# Altium integrated library ON Semi Signal Management CMOS Image Sensors.IntLib: 21 symbols (part 2 of 3)
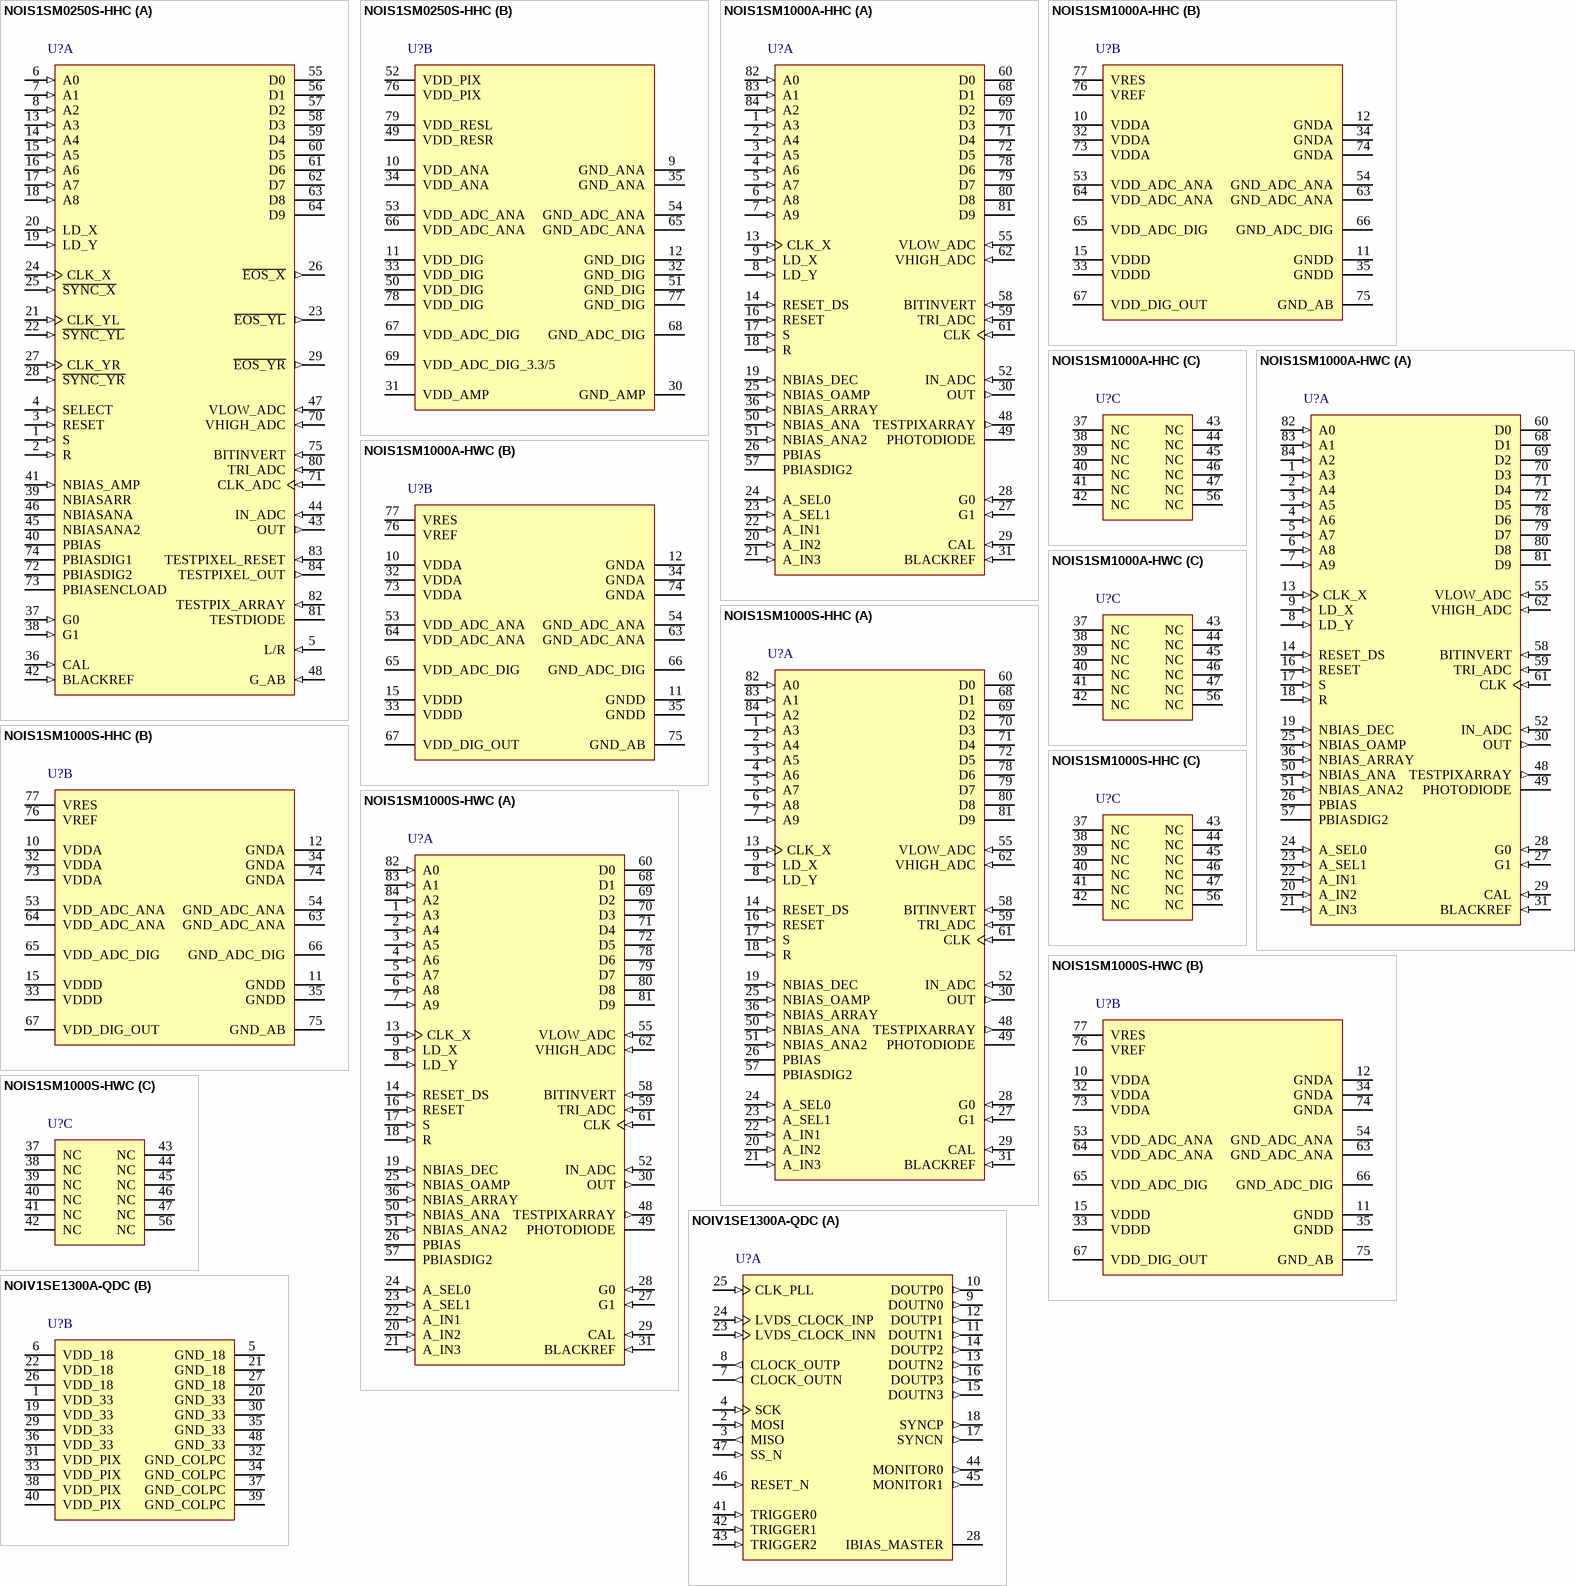
[diagram p4: symbols NOIS1SM0250S-HHC to NOIV1SE1300A-QDC]

## NOIS1SM1000A-HHC
designator U?
1 Megapixel Radiation Hard CMOS Image Sensor, -40 to 85 degC, 84-Pin JLDCC, Pb-Free, Tray; Manufacturer: On Semiconductor; PartNumber: NOIS1SM1000A-HHC; Frame Rate (fps): 11; Megapixels: 1; Optical Format: 1 inch; Shutter Type: Rolling; DatasheetVersion: Rev. 13; PackageVersion: Rev. O, 07/2011; PackageReference: JLDCC-84-114AK-01; PackageDescription: 84-Pin J-Leaded Chip Carrier, Body 29.21 x 29.21 mm, Pitch 1.27 mm; Supplier 1: Digi-Key; Supplier Part Number 1: NOIS1SM1000A-HHC-ND; Supplier 2: Newark; Supplier Part Number 2: 53X4362; Supplier 3: Mouser; Supplier Part Number 3: N/A; Packing: Tray; RoHS: TRUE; Mounting Technology: Surface Mount; ComponentLink1Description: Manufacturer URL; ComponentLink1URL: http://www.onsemi.com/; ComponentLink2Description: Datasheet; ComponentLink2URL: http://www.onsemi.com/pub_link/Collateral/NOIS1SM1000A-D.PDF; ComponentLink3Description: Package Specification; ComponentLink3URL: http://www.onsemi.com/pub_link/Collateral/114AK.PDF
footprint ONSC-JLDCC-84-114AK-01_V (PLCC, 84-Leads, Body 29.21x29.21mm, Pitch 1.27mm)
part A pins: 1 A3 (in), 2 A4 (in), 3 A5 (in), 4 A6 (in), 5 A7 (in), 6 A8 (in), 7 A9 (in), 8 LD_Y (in) "Digital Input. Latch address (A0…A9) to Y-register (0 = track, 1 = hold).", 9 LD_X (in) "Digital input. Latch address (A0…A9) to X-register (0 = track, 1 = hold).", 13 CLK_X (in) "Digital input. Clock X-register (output valid & stable when CLK_X is high).", 14 RESET_DS (in) "Digital input (active high). Resets row indicated by Y-address (see sensor timing diagram). RESET_DS is used for dual-slope integration (see FAQ). GND is used for normal operation.", 16 RESET (in) "Digital input (active high). Resets row indicated by Y-address (see sensor timing diagram).", 17 S (in) "Digital input (active high). Control signal for column amplifier (see sensor timing diagram).", 18 R (in) "Digital input (active high). Control signal for column amplifier (see sensor timing diagram).", 19 NBIAS_DEC (in) "Analog input. Biasing of address decoder. Connect with 100 kohm to VDDA and decouple with 100 nF to GND.", 20 A_IN2 (in) "Additional analog inputs. For proper conversion with on-chip ADC, the input signal must lie within the output signal range of the image sensor (approxim-ately +2 V to +4 V).", 21 A_IN3 (in) "Additional analog inputs. For proper conversion with on-chip ADC, the input signal must lie within the output signal range of the image sensor (approxim-ately +2 V to +4 V).", 22 A_IN1 (in) "Additional analog inputs. For proper conversion with on-chip ADC, the input signal must lie within the output signal range of the image sensor (approxim-ately +2 V to +4 V).", 23 A_SEL1 (in) "Selection of analog channel: ?0?selects image sensor (?1?selects A_IN1, ?0?A_IN2, and ?1?A_IN3).", 24 A_SEL0 (in) "Selection of analog channel: ?0?selects image sensor (?1?selects A_IN1, ?0?A_IN2, and ?1?A_IN3).", 25 NBIAS_OAMP (in) "Analog input. Bias of output amplifier (speed/power control). Connect with 100 kohm to VDDA and decouple with 100 nF to GND for 12.5 MHz output rate (lower resistor values yield higher maximal pixel rates at the cost of (See Datasheet)", 26 PBIAS "Analog input. Biasing of the multiplexer circuitry. Connect with 20 kohm to GND and decouple with 100 nF to VDD.", 27 G1 (in) "Digital input. Select output amplifier gain value: G0 = LSB, G1 = MSB (?0?= unity gain, ?1?= x2, ?0?= x4, ?1?= x8).", 28 G0 (in) "Digital input. Select output amplifier gain value: G0 = LSB, G1 = MSB (?0?= unity gain, ?1?= x2, ?0?= x4, ?1?= x8).", 29 CAL (in) "Digital input (active high). Initialization of output amplifier. Output amplifier outputs BLACKREF in unity gain mode when CAL is high (1). Apply pulse pattern (see sensor timing diagram).", 30 OUT (out) "Analog Output Video Signal. Connected to the analog input of the internal (pin 52) 10-bit ADC or an external ADC.", 31 BLACKREF (in) "Analog input. Control voltage for output signal offset level. Buffered on-chip, the reference level can be generated by a 100 kohm resistive divider. Connect to 2 V DC for use with on-chip ADC.", 36 NBIAS_ARRAY (in) "Analog input. Biasing of the pixel array. Connect with 1Mohm to VDDA and decouple with 100 nF capacitor to GND.", 48 TESTPIXARRAY (out) "Analog output of an array of 20 x 35 test pixels where all photodiodes are connected in parallel. Is used for electro-optical evaluation.", 49 PHOTODIODE "Plain Photo Diode (without circuitry). Area of the photodiode = 20 x 35 pixels. Is used for electro-optical evaluation.", 50 NBIAS_ANA (in) "Analog input. Analog biasing of the ADC circuitry. Connect with 100 kohm to VDDA and decouple with 100 nF to GND.", 51 NBIAS_ANA2 (in) "Analog input. Analog biasing of the ADC circuitry. Connect with 100 kohm to VDDA and decouple with 100 nF to GND.", 52 IN_ADC (in) "Analog input of the internal ADC. Connect to analog output of image sensor (pin 30). Input range (typically 2 V and 4 V) of the internal ADC is set between by VLOW_ADC (pin 55) and VHIGH_ADC (pin 62).", 55 VLOW_ADC (in) "Low reference voltage of internal ADC. Nominal input range of the ADC is between 2 V and 4 V. The resistance between VLOW_ADC and VHIGH_ADC is approximately 1.5 kohm. Connect with 1.5 kohm to GND and decouple with 100 nF to (See Datasheet)", 57 PBIASDIG2 "Connect with 20 kohm to GND and decouple with 100 nF to VDDA.", 58 BITINVERT (in) "Digital input. Inversion of the ADC output bits. 0 = invert output bits (0 => black, 1023; white, 0), 1 = no inversion of output bits (black, 0; white, 1023).", 59 TRI_ADC (in) "Digital input. Tri-state control of digital ADC outputs (1 = tri-state, 0 = normal mode).", 60 D0 (hiz) "ADC output bits.#D0 = LSB, D9=MSB.", 61 CLK (in) "Digital input. ADC clock. ADC converts on falling edge.", 62 VHIGH_ADC (in) "High reference voltage of internal ADC. Nominal input range of the ADC is between 2 V and 4 V. The resistance between VLOW_ADC and VHIGH_ADC is about 1.5 kohm. Connect with 1.1 kohm to VDDA and decouple with 100 nF to GND.", 68 D1 (hiz) "ADC output bits. #D0 = LSB, D9 = MSB.", 69 D2 (hiz) "ADC output bits. #D0 = LSB, D9 = MSB.", 70 D3 (hiz) "ADC output bits. #D0 = LSB, D9 = MSB.", 71 D4 (hiz) "ADC output bits. #D0 = LSB, D9 = MSB.", 72 D5 (hiz) "ADC output bits. #D0 = LSB, D9 = MSB.", 78 D6 (hiz) "ADC output bits. #D0 = LSB, D9 = MSB.", 79 D7 (hiz) "ADC output bits. #D0 = LSB, D9 = MSB.", 80 D8 (hiz) "ADC output bits. #D0 = LSB, D9 = MSB.", 81 D9 (hiz) "ADC output bits. #D0 = LSB, D9 = MSB.", 82 A0 (in) "Digital input. Address inputs for row and column addressing. A9 = LSB, A0 = MSB.", 83 A1 (in) "Digital input. Address inputs for row and column addressing. A9 = LSB, A0 = MSB.", 84 A2 (in) "Digital input. Address inputs for row and column addressing. A9 = LSB, A0 = MSB."
part B pins: 10 VDDA (power) "Analog power supply of the imager (typical 5 V).", 11 GNDD (power) "Digital ground of the imager.", 12 GNDA (power) "Analog ground of the imager.", 15 VDDD (power) "Digital supply of the image sensor.", 32 VDDA (power) "Analog power supply of image core (typical 5 V).", 33 VDDD (power) "Digital power supply of image core (typical 5 V).", 34 GNDA (power) "Analog ground of image core.", 35 GNDD (power) "Digital ground of image core.", 53 VDD_ADC_ANA (power) "Analog power supply of the ADC (typical 5 V).", 54 GND_ADC_ANA (power) "Analog ground of the ADC.", 63 GND_ADC_ANA (power) "Analog ground of the ADC circuitry.", 64 VDD_ADC_ANA (power) "Analog supply of the ADC circuitry (typical 5 V).", 65 VDD_ADC_DIG (power) "Digital supply of the ADC circuitry (typical 5 V).", 66 GND_ADC_DIG (power) "Digital ground of the ADC circuitry.", 67 VDD_DIG_OUT (power) "Power supply of ADC digital output. Connect to 5 V for normal operation. Can be brought to lower voltage when image sensor must be interfaced to low voltage periphery.", 73 VDDA (power) "Analog supply of the image core (typical 5 V).", 74 GNDA (power) "Analog ground of the image core (typical 5 V).", 75 GND_AB (power) "Anti-blooming drain control voltage. Default: connect to ground where the anti-blooming is operational but not maximal. Apply 1 V DC for improved anti-blooming.", 76 VREF (power) "Analog supply. Reset level for RESET_DS. Is used for extended optical dynamic range. See FAQ for more details.", 77 VRES (power) "Analog supply. Reset level for RESET (typical 5 V)."
part C pins: 37 NC, 38 NC, 39 NC, 40 NC, 41 NC, 42 NC, 43 NC, 44 NC, 45 NC, 46 NC, 47 NC, 56 NC

## NOIS1SM1000A-HWC
designator U?
1 Megapixel Radiation Hard CMOS Image Sensor, -40 to 85 degC, 84-Pin JLDCC, Pb-Free; Manufacturer: On Semiconductor; PartNumber: NOIS1SM1000A-HWC; Frame Rate (fps): 11; Megapixels: 1; Optical Format: 1 inch; Shutter Type: Rolling; DatasheetVersion: Rev. 13; PackageVersion: Rev. O, 07/2011; PackageReference: JLDCC-84-114AK-01; PackageDescription: 84-Pin J-Leaded Chip Carrier, Body 29.21 x 29.21 mm, Pitch 1.27 mm; RoHS: TRUE; Mounting Technology: Surface Mount; ComponentLink1Description: Manufacturer URL; ComponentLink1URL: http://www.onsemi.com/; ComponentLink2Description: Datasheet; ComponentLink2URL: http://www.onsemi.com/pub_link/Collateral/NOIS1SM1000A-D.PDF; ComponentLink3Description: Package Specification; ComponentLink3URL: http://www.onsemi.com/pub_link/Collateral/114AK.PDF
footprint ONSC-JLDCC-84-114AK-01_V (PLCC, 84-Leads, Body 29.21x29.21mm, Pitch 1.27mm)
part A pins: 1 A3 (in), 2 A4 (in), 3 A5 (in), 4 A6 (in), 5 A7 (in), 6 A8 (in), 7 A9 (in), 8 LD_Y (in) "Digital Input. Latch address (A0…A9) to Y-register (0 = track, 1 = hold).", 9 LD_X (in) "Digital input. Latch address (A0…A9) to X-register (0 = track, 1 = hold).", 13 CLK_X (in) "Digital input. Clock X-register (output valid & stable when CLK_X is high).", 14 RESET_DS (in) "Digital input (active high). Resets row indicated by Y-address (see sensor timing diagram). RESET_DS is used for dual-slope integration (see FAQ). GND is used for normal operation.", 16 RESET (in) "Digital input (active high). Resets row indicated by Y-address (see sensor timing diagram).", 17 S (in) "Digital input (active high). Control signal for column amplifier (see sensor timing diagram).", 18 R (in) "Digital input (active high). Control signal for column amplifier (see sensor timing diagram).", 19 NBIAS_DEC (in) "Analog input. Biasing of address decoder. Connect with 100 kohm to VDDA and decouple with 100 nF to GND.", 20 A_IN2 (in) "Additional analog inputs. For proper conversion with on-chip ADC, the input signal must lie within the output signal range of the image sensor (approxim-ately +2 V to +4 V).", 21 A_IN3 (in) "Additional analog inputs. For proper conversion with on-chip ADC, the input signal must lie within the output signal range of the image sensor (approxim-ately +2 V to +4 V).", 22 A_IN1 (in) "Additional analog inputs. For proper conversion with on-chip ADC, the input signal must lie within the output signal range of the image sensor (approxim-ately +2 V to +4 V).", 23 A_SEL1 (in) "Selection of analog channel: ?0?selects image sensor (?1?selects A_IN1, ?0?A_IN2, and ?1?A_IN3).", 24 A_SEL0 (in) "Selection of analog channel: ?0?selects image sensor (?1?selects A_IN1, ?0?A_IN2, and ?1?A_IN3).", 25 NBIAS_OAMP (in) "Analog input. Bias of output amplifier (speed/power control). Connect with 100 kohm to VDDA and decouple with 100 nF to GND for 12.5 MHz output rate (lower resistor values yield higher maximal pixel rates at the cost of (See Datasheet)", 26 PBIAS "Analog input. Biasing of the multiplexer circuitry. Connect with 20 kohm to GND and decouple with 100 nF to VDD.", 27 G1 (in) "Digital input. Select output amplifier gain value: G0 = LSB, G1 = MSB (?0?= unity gain, ?1?= x2, ?0?= x4, ?1?= x8).", 28 G0 (in) "Digital input. Select output amplifier gain value: G0 = LSB, G1 = MSB (?0?= unity gain, ?1?= x2, ?0?= x4, ?1?= x8).", 29 CAL (in) "Digital input (active high). Initialization of output amplifier. Output amplifier outputs BLACKREF in unity gain mode when CAL is high (1). Apply pulse pattern (see sensor timing diagram).", 30 OUT (out) "Analog Output Video Signal. Connected to the analog input of the internal (pin 52) 10-bit ADC or an external ADC.", 31 BLACKREF (in) "Analog input. Control voltage for output signal offset level. Buffered on-chip, the reference level can be generated by a 100 kohm resistive divider. Connect to 2 V DC for use with on-chip ADC.", 36 NBIAS_ARRAY (in) "Analog input. Biasing of the pixel array. Connect with 1Mohm to VDDA and decouple with 100 nF capacitor to GND.", 48 TESTPIXARRAY (out) "Analog output of an array of 20 x 35 test pixels where all photodiodes are connected in parallel. Is used for electro-optical evaluation.", 49 PHOTODIODE "Plain Photo Diode (without circuitry). Area of the photodiode = 20 x 35 pixels. Is used for electro-optical evaluation.", 50 NBIAS_ANA (in) "Analog input. Analog biasing of the ADC circuitry. Connect with 100 kohm to VDDA and decouple with 100 nF to GND.", 51 NBIAS_ANA2 (in) "Analog input. Analog biasing of the ADC circuitry. Connect with 100 kohm to VDDA and decouple with 100 nF to GND.", 52 IN_ADC (in) "Analog input of the internal ADC. Connect to analog output of image sensor (pin 30). Input range (typically 2 V and 4 V) of the internal ADC is set between by VLOW_ADC (pin 55) and VHIGH_ADC (pin 62).", 55 VLOW_ADC (in) "Low reference voltage of internal ADC. Nominal input range of the ADC is between 2 V and 4 V. The resistance between VLOW_ADC and VHIGH_ADC is approximately 1.5 kohm. Connect with 1.5 kohm to GND and decouple with 100 nF to (See Datasheet)", 57 PBIASDIG2 "Connect with 20 kohm to GND and decouple with 100 nF to VDDA.", 58 BITINVERT (in) "Digital input. Inversion of the ADC output bits. 0 = invert output bits (0 => black, 1023; white, 0), 1 = no inversion of output bits (black, 0; white, 1023).", 59 TRI_ADC (in) "Digital input. Tri-state control of digital ADC outputs (1 = tri-state, 0 = normal mode).", 60 D0 (hiz) "ADC output bits.#D0 = LSB, D9=MSB.", 61 CLK (in) "Digital input. ADC clock. ADC converts on falling edge.", 62 VHIGH_ADC (in) "High reference voltage of internal ADC. Nominal input range of the ADC is between 2 V and 4 V. The resistance between VLOW_ADC and VHIGH_ADC is about 1.5 kohm. Connect with 1.1 kohm to VDDA and decouple with 100 nF to GND.", 68 D1 (hiz) "ADC output bits. #D0 = LSB, D9 = MSB.", 69 D2 (hiz) "ADC output bits. #D0 = LSB, D9 = MSB.", 70 D3 (hiz) "ADC output bits. #D0 = LSB, D9 = MSB.", 71 D4 (hiz) "ADC output bits. #D0 = LSB, D9 = MSB.", 72 D5 (hiz) "ADC output bits. #D0 = LSB, D9 = MSB.", 78 D6 (hiz) "ADC output bits. #D0 = LSB, D9 = MSB.", 79 D7 (hiz) "ADC output bits. #D0 = LSB, D9 = MSB.", 80 D8 (hiz) "ADC output bits. #D0 = LSB, D9 = MSB.", 81 D9 (hiz) "ADC output bits. #D0 = LSB, D9 = MSB.", 82 A0 (in) "Digital input. Address inputs for row and column addressing. A9 = LSB, A0 = MSB.", 83 A1 (in) "Digital input. Address inputs for row and column addressing. A9 = LSB, A0 = MSB.", 84 A2 (in) "Digital input. Address inputs for row and column addressing. A9 = LSB, A0 = MSB."
part B pins: 10 VDDA (power) "Analog power supply of the imager (typical 5 V).", 11 GNDD (power) "Digital ground of the imager.", 12 GNDA (power) "Analog ground of the imager.", 15 VDDD (power) "Digital supply of the image sensor.", 32 VDDA (power) "Analog power supply of image core (typical 5 V).", 33 VDDD (power) "Digital power supply of image core (typical 5 V).", 34 GNDA (power) "Analog ground of image core.", 35 GNDD (power) "Digital ground of image core.", 53 VDD_ADC_ANA (power) "Analog power supply of the ADC (typical 5 V).", 54 GND_ADC_ANA (power) "Analog ground of the ADC.", 63 GND_ADC_ANA (power) "Analog ground of the ADC circuitry.", 64 VDD_ADC_ANA (power) "Analog supply of the ADC circuitry (typical 5 V).", 65 VDD_ADC_DIG (power) "Digital supply of the ADC circuitry (typical 5 V).", 66 GND_ADC_DIG (power) "Digital ground of the ADC circuitry.", 67 VDD_DIG_OUT (power) "Power supply of ADC digital output. Connect to 5 V for normal operation. Can be brought to lower voltage when image sensor must be interfaced to low voltage periphery.", 73 VDDA (power) "Analog supply of the image core (typical 5 V).", 74 GNDA (power) "Analog ground of the image core (typical 5 V).", 75 GND_AB (power) "Anti-blooming drain control voltage. Default: connect to ground where the anti-blooming is operational but not maximal. Apply 1 V DC for improved anti-blooming.", 76 VREF (power) "Analog supply. Reset level for RESET_DS. Is used for extended optical dynamic range. See FAQ for more details.", 77 VRES (power) "Analog supply. Reset level for RESET (typical 5 V)."
part C pins: 37 NC, 38 NC, 39 NC, 40 NC, 41 NC, 42 NC, 43 NC, 44 NC, 45 NC, 46 NC, 47 NC, 56 NC

## NOIS1SM1000S-HHC
designator U?
1 Megapixel Radiation Hard CMOS Image Sensor, -40 to 85 degC, 84-Pin JLDCC, Pb-Free, Tray; Manufacturer: On Semiconductor; PartNumber: NOIS1SM1000S-HHC; Frame Rate (fps): 11; Megapixels: 1; Optical Format: 1 inch; Shutter Type: Rolling; DatasheetVersion: Rev. 13; PackageVersion: Rev. O, 07/2011; PackageReference: JLDCC-84-114AK-01; PackageDescription: 84-Pin J-Leaded Chip Carrier, Body 29.21 x 29.21 mm, Pitch 1.27 mm; Supplier 1: Newark; Supplier Part Number 1: 53X4361; Supplier 2: Mouser; Supplier Part Number 2: N/A; Packing: Tray; RoHS: TRUE; Mounting Technology: Surface Mount; ComponentLink1Description: Manufacturer URL; ComponentLink1URL: http://www.onsemi.com/; ComponentLink2Description: Datasheet; ComponentLink2URL: http://www.onsemi.com/pub_link/Collateral/NOIS1SM1000A-D.PDF; ComponentLink3Description: Package Specification; ComponentLink3URL: http://www.onsemi.com/pub_link/Collateral/114AK.PDF
footprint ONSC-JLDCC-84-114AK-01_V (PLCC, 84-Leads, Body 29.21x29.21mm, Pitch 1.27mm)
part A pins: 1 A3 (in), 2 A4 (in), 3 A5 (in), 4 A6 (in), 5 A7 (in), 6 A8 (in), 7 A9 (in), 8 LD_Y (in) "Digital Input. Latch address (A0…A9) to Y-register (0 = track, 1 = hold).", 9 LD_X (in) "Digital input. Latch address (A0…A9) to X-register (0 = track, 1 = hold).", 13 CLK_X (in) "Digital input. Clock X-register (output valid & stable when CLK_X is high).", 14 RESET_DS (in) "Digital input (active high). Resets row indicated by Y-address (see sensor timing diagram). RESET_DS is used for dual-slope integration (see FAQ). GND is used for normal operation.", 16 RESET (in) "Digital input (active high). Resets row indicated by Y-address (see sensor timing diagram).", 17 S (in) "Digital input (active high). Control signal for column amplifier (see sensor timing diagram).", 18 R (in) "Digital input (active high). Control signal for column amplifier (see sensor timing diagram).", 19 NBIAS_DEC (in) "Analog input. Biasing of address decoder. Connect with 100 kohm to VDDA and decouple with 100 nF to GND.", 20 A_IN2 (in) "Additional analog inputs. For proper conversion with on-chip ADC, the input signal must lie within the output signal range of the image sensor (approxim-ately +2 V to +4 V).", 21 A_IN3 (in) "Additional analog inputs. For proper conversion with on-chip ADC, the input signal must lie within the output signal range of the image sensor (approxim-ately +2 V to +4 V).", 22 A_IN1 (in) "Additional analog inputs. For proper conversion with on-chip ADC, the input signal must lie within the output signal range of the image sensor (approxim-ately +2 V to +4 V).", 23 A_SEL1 (in) "Selection of analog channel: ?0?selects image sensor (?1?selects A_IN1, ?0?A_IN2, and ?1?A_IN3).", 24 A_SEL0 (in) "Selection of analog channel: ?0?selects image sensor (?1?selects A_IN1, ?0?A_IN2, and ?1?A_IN3).", 25 NBIAS_OAMP (in) "Analog input. Bias of output amplifier (speed/power control). Connect with 100 kohm to VDDA and decouple with 100 nF to GND for 12.5 MHz output rate (lower resistor values yield higher maximal pixel rates at the cost of (See Datasheet)", 26 PBIAS "Analog input. Biasing of the multiplexer circuitry. Connect with 20 kohm to GND and decouple with 100 nF to VDD.", 27 G1 (in) "Digital input. Select output amplifier gain value: G0 = LSB, G1 = MSB (?0?= unity gain, ?1?= x2, ?0?= x4, ?1?= x8).", 28 G0 (in) "Digital input. Select output amplifier gain value: G0 = LSB, G1 = MSB (?0?= unity gain, ?1?= x2, ?0?= x4, ?1?= x8).", 29 CAL (in) "Digital input (active high). Initialization of output amplifier. Output amplifier outputs BLACKREF in unity gain mode when CAL is high (1). Apply pulse pattern (see sensor timing diagram).", 30 OUT (out) "Analog Output Video Signal. Connected to the analog input of the internal (pin 52) 10-bit ADC or an external ADC.", 31 BLACKREF (in) "Analog input. Control voltage for output signal offset level. Buffered on-chip, the reference level can be generated by a 100 kohm resistive divider. Connect to 2 V DC for use with on-chip ADC.", 36 NBIAS_ARRAY (in) "Analog input. Biasing of the pixel array. Connect with 1Mohm to VDDA and decouple with 100 nF capacitor to GND.", 48 TESTPIXARRAY (out) "Analog output of an array of 20 x 35 test pixels where all photodiodes are connected in parallel. Is used for electro-optical evaluation.", 49 PHOTODIODE "Plain Photo Diode (without circuitry). Area of the photodiode = 20 x 35 pixels. Is used for electro-optical evaluation.", 50 NBIAS_ANA (in) "Analog input. Analog biasing of the ADC circuitry. Connect with 100 kohm to VDDA and decouple with 100 nF to GND.", 51 NBIAS_ANA2 (in) "Analog input. Analog biasing of the ADC circuitry. Connect with 100 kohm to VDDA and decouple with 100 nF to GND.", 52 IN_ADC (in) "Analog input of the internal ADC. Connect to analog output of image sensor (pin 30). Input range (typically 2 V and 4 V) of the internal ADC is set between by VLOW_ADC (pin 55) and VHIGH_ADC (pin 62).", 55 VLOW_ADC (in) "Low reference voltage of internal ADC. Nominal input range of the ADC is between 2 V and 4 V. The resistance between VLOW_ADC and VHIGH_ADC is approximately 1.5 kohm. Connect with 1.5 kohm to GND and decouple with 100 nF to (See Datasheet)", 57 PBIASDIG2 "Connect with 20 kohm to GND and decouple with 100 nF to VDDA.", 58 BITINVERT (in) "Digital input. Inversion of the ADC output bits. 0 = invert output bits (0 => black, 1023; white, 0), 1 = no inversion of output bits (black, 0; white, 1023).", 59 TRI_ADC (in) "Digital input. Tri-state control of digital ADC outputs (1 = tri-state, 0 = normal mode).", 60 D0 (hiz) "ADC output bits.#D0 = LSB, D9=MSB.", 61 CLK (in) "Digital input. ADC clock. ADC converts on falling edge.", 62 VHIGH_ADC (in) "High reference voltage of internal ADC. Nominal input range of the ADC is between 2 V and 4 V. The resistance between VLOW_ADC and VHIGH_ADC is about 1.5 kohm. Connect with 1.1 kohm to VDDA and decouple with 100 nF to GND.", 68 D1 (hiz) "ADC output bits. #D0 = LSB, D9 = MSB.", 69 D2 (hiz) "ADC output bits. #D0 = LSB, D9 = MSB.", 70 D3 (hiz) "ADC output bits. #D0 = LSB, D9 = MSB.", 71 D4 (hiz) "ADC output bits. #D0 = LSB, D9 = MSB.", 72 D5 (hiz) "ADC output bits. #D0 = LSB, D9 = MSB.", 78 D6 (hiz) "ADC output bits. #D0 = LSB, D9 = MSB.", 79 D7 (hiz) "ADC output bits. #D0 = LSB, D9 = MSB.", 80 D8 (hiz) "ADC output bits. #D0 = LSB, D9 = MSB.", 81 D9 (hiz) "ADC output bits. #D0 = LSB, D9 = MSB.", 82 A0 (in) "Digital input. Address inputs for row and column addressing. A9 = LSB, A0 = MSB.", 83 A1 (in) "Digital input. Address inputs for row and column addressing. A9 = LSB, A0 = MSB.", 84 A2 (in) "Digital input. Address inputs for row and column addressing. A9 = LSB, A0 = MSB."
part B pins: 10 VDDA (power) "Analog power supply of the imager (typical 5 V).", 11 GNDD (power) "Digital ground of the imager.", 12 GNDA (power) "Analog ground of the imager.", 15 VDDD (power) "Digital supply of the image sensor.", 32 VDDA (power) "Analog power supply of image core (typical 5 V).", 33 VDDD (power) "Digital power supply of image core (typical 5 V).", 34 GNDA (power) "Analog ground of image core.", 35 GNDD (power) "Digital ground of image core.", 53 VDD_ADC_ANA (power) "Analog power supply of the ADC (typical 5 V).", 54 GND_ADC_ANA (power) "Analog ground of the ADC.", 63 GND_ADC_ANA (power) "Analog ground of the ADC circuitry.", 64 VDD_ADC_ANA (power) "Analog supply of the ADC circuitry (typical 5 V).", 65 VDD_ADC_DIG (power) "Digital supply of the ADC circuitry (typical 5 V).", 66 GND_ADC_DIG (power) "Digital ground of the ADC circuitry.", 67 VDD_DIG_OUT (power) "Power supply of ADC digital output. Connect to 5 V for normal operation. Can be brought to lower voltage when image sensor must be interfaced to low voltage periphery.", 73 VDDA (power) "Analog supply of the image core (typical 5 V).", 74 GNDA (power) "Analog ground of the image core (typical 5 V).", 75 GND_AB (power) "Anti-blooming drain control voltage. Default: connect to ground where the anti-blooming is operational but not maximal. Apply 1 V DC for improved anti-blooming.", 76 VREF (power) "Analog supply. Reset level for RESET_DS. Is used for extended optical dynamic range. See FAQ for more details.", 77 VRES (power) "Analog supply. Reset level for RESET (typical 5 V)."
part C pins: 37 NC, 38 NC, 39 NC, 40 NC, 41 NC, 42 NC, 43 NC, 44 NC, 45 NC, 46 NC, 47 NC, 56 NC

## NOIS1SM1000S-HWC
designator U?
1 Megapixel Radiation Hard CMOS Image Sensor, -40 to 85 degC, 84-Pin JLDCC, Pb-Free; Manufacturer: On Semiconductor; PartNumber: NOIS1SM1000S-HWC; Frame Rate (fps): 11; Megapixels: 1; Optical Format: 1 inch; Shutter Type: Rolling; DatasheetVersion: Rev. 13; PackageVersion: Rev. O, 07/2011; PackageReference: JLDCC-84-114AK-01; PackageDescription: 84-Pin J-Leaded Chip Carrier, Body 29.21 x 29.21 mm, Pitch 1.27 mm; RoHS: TRUE; Mounting Technology: Surface Mount; ComponentLink1Description: Manufacturer URL; ComponentLink1URL: http://www.onsemi.com/; ComponentLink2Description: Datasheet; ComponentLink2URL: http://www.onsemi.com/pub_link/Collateral/NOIS1SM1000A-D.PDF; ComponentLink3Description: Package Specification; ComponentLink3URL: http://www.onsemi.com/pub_link/Collateral/114AK.PDF
footprint ONSC-JLDCC-84-114AK-01_V (PLCC, 84-Leads, Body 29.21x29.21mm, Pitch 1.27mm)
part A pins: 1 A3 (in), 2 A4 (in), 3 A5 (in), 4 A6 (in), 5 A7 (in), 6 A8 (in), 7 A9 (in), 8 LD_Y (in) "Digital Input. Latch address (A0…A9) to Y-register (0 = track, 1 = hold).", 9 LD_X (in) "Digital input. Latch address (A0…A9) to X-register (0 = track, 1 = hold).", 13 CLK_X (in) "Digital input. Clock X-register (output valid & stable when CLK_X is high).", 14 RESET_DS (in) "Digital input (active high). Resets row indicated by Y-address (see sensor timing diagram). RESET_DS is used for dual-slope integration (see FAQ). GND is used for normal operation.", 16 RESET (in) "Digital input (active high). Resets row indicated by Y-address (see sensor timing diagram).", 17 S (in) "Digital input (active high). Control signal for column amplifier (see sensor timing diagram).", 18 R (in) "Digital input (active high). Control signal for column amplifier (see sensor timing diagram).", 19 NBIAS_DEC (in) "Analog input. Biasing of address decoder. Connect with 100 kohm to VDDA and decouple with 100 nF to GND.", 20 A_IN2 (in) "Additional analog inputs. For proper conversion with on-chip ADC, the input signal must lie within the output signal range of the image sensor (approxim-ately +2 V to +4 V).", 21 A_IN3 (in) "Additional analog inputs. For proper conversion with on-chip ADC, the input signal must lie within the output signal range of the image sensor (approxim-ately +2 V to +4 V).", 22 A_IN1 (in) "Additional analog inputs. For proper conversion with on-chip ADC, the input signal must lie within the output signal range of the image sensor (approxim-ately +2 V to +4 V).", 23 A_SEL1 (in) "Selection of analog channel: ?0?selects image sensor (?1?selects A_IN1, ?0?A_IN2, and ?1?A_IN3).", 24 A_SEL0 (in) "Selection of analog channel: ?0?selects image sensor (?1?selects A_IN1, ?0?A_IN2, and ?1?A_IN3).", 25 NBIAS_OAMP (in) "Analog input. Bias of output amplifier (speed/power control). Connect with 100 kohm to VDDA and decouple with 100 nF to GND for 12.5 MHz output rate (lower resistor values yield higher maximal pixel rates at the cost of (See Datasheet)", 26 PBIAS "Analog input. Biasing of the multiplexer circuitry. Connect with 20 kohm to GND and decouple with 100 nF to VDD.", 27 G1 (in) "Digital input. Select output amplifier gain value: G0 = LSB, G1 = MSB (?0?= unity gain, ?1?= x2, ?0?= x4, ?1?= x8).", 28 G0 (in) "Digital input. Select output amplifier gain value: G0 = LSB, G1 = MSB (?0?= unity gain, ?1?= x2, ?0?= x4, ?1?= x8).", 29 CAL (in) "Digital input (active high). Initialization of output amplifier. Output amplifier outputs BLACKREF in unity gain mode when CAL is high (1). Apply pulse pattern (see sensor timing diagram).", 30 OUT (out) "Analog Output Video Signal. Connected to the analog input of the internal (pin 52) 10-bit ADC or an external ADC.", 31 BLACKREF (in) "Analog input. Control voltage for output signal offset level. Buffered on-chip, the reference level can be generated by a 100 kohm resistive divider. Connect to 2 V DC for use with on-chip ADC.", 36 NBIAS_ARRAY (in) "Analog input. Biasing of the pixel array. Connect with 1Mohm to VDDA and decouple with 100 nF capacitor to GND.", 48 TESTPIXARRAY (out) "Analog output of an array of 20 x 35 test pixels where all photodiodes are connected in parallel. Is used for electro-optical evaluation.", 49 PHOTODIODE "Plain Photo Diode (without circuitry). Area of the photodiode = 20 x 35 pixels. Is used for electro-optical evaluation.", 50 NBIAS_ANA (in) "Analog input. Analog biasing of the ADC circuitry. Connect with 100 kohm to VDDA and decouple with 100 nF to GND.", 51 NBIAS_ANA2 (in) "Analog input. Analog biasing of the ADC circuitry. Connect with 100 kohm to VDDA and decouple with 100 nF to GND.", 52 IN_ADC (in) "Analog input of the internal ADC. Connect to analog output of image sensor (pin 30). Input range (typically 2 V and 4 V) of the internal ADC is set between by VLOW_ADC (pin 55) and VHIGH_ADC (pin 62).", 55 VLOW_ADC (in) "Low reference voltage of internal ADC. Nominal input range of the ADC is between 2 V and 4 V. The resistance between VLOW_ADC and VHIGH_ADC is approximately 1.5 kohm. Connect with 1.5 kohm to GND and decouple with 100 nF to (See Datasheet)", 57 PBIASDIG2 "Connect with 20 kohm to GND and decouple with 100 nF to VDDA.", 58 BITINVERT (in) "Digital input. Inversion of the ADC output bits. 0 = invert output bits (0 => black, 1023; white, 0), 1 = no inversion of output bits (black, 0; white, 1023).", 59 TRI_ADC (in) "Digital input. Tri-state control of digital ADC outputs (1 = tri-state, 0 = normal mode).", 60 D0 (hiz) "ADC output bits.#D0 = LSB, D9=MSB.", 61 CLK (in) "Digital input. ADC clock. ADC converts on falling edge.", 62 VHIGH_ADC (in) "High reference voltage of internal ADC. Nominal input range of the ADC is between 2 V and 4 V. The resistance between VLOW_ADC and VHIGH_ADC is about 1.5 kohm. Connect with 1.1 kohm to VDDA and decouple with 100 nF to GND.", 68 D1 (hiz) "ADC output bits. #D0 = LSB, D9 = MSB.", 69 D2 (hiz) "ADC output bits. #D0 = LSB, D9 = MSB.", 70 D3 (hiz) "ADC output bits. #D0 = LSB, D9 = MSB.", 71 D4 (hiz) "ADC output bits. #D0 = LSB, D9 = MSB.", 72 D5 (hiz) "ADC output bits. #D0 = LSB, D9 = MSB.", 78 D6 (hiz) "ADC output bits. #D0 = LSB, D9 = MSB.", 79 D7 (hiz) "ADC output bits. #D0 = LSB, D9 = MSB.", 80 D8 (hiz) "ADC output bits. #D0 = LSB, D9 = MSB.", 81 D9 (hiz) "ADC output bits. #D0 = LSB, D9 = MSB.", 82 A0 (in) "Digital input. Address inputs for row and column addressing. A9 = LSB, A0 = MSB.", 83 A1 (in) "Digital input. Address inputs for row and column addressing. A9 = LSB, A0 = MSB.", 84 A2 (in) "Digital input. Address inputs for row and column addressing. A9 = LSB, A0 = MSB."
part B pins: 10 VDDA (power) "Analog power supply of the imager (typical 5 V).", 11 GNDD (power) "Digital ground of the imager.", 12 GNDA (power) "Analog ground of the imager.", 15 VDDD (power) "Digital supply of the image sensor.", 32 VDDA (power) "Analog power supply of image core (typical 5 V).", 33 VDDD (power) "Digital power supply of image core (typical 5 V).", 34 GNDA (power) "Analog ground of image core.", 35 GNDD (power) "Digital ground of image core.", 53 VDD_ADC_ANA (power) "Analog power supply of the ADC (typical 5 V).", 54 GND_ADC_ANA (power) "Analog ground of the ADC.", 63 GND_ADC_ANA (power) "Analog ground of the ADC circuitry.", 64 VDD_ADC_ANA (power) "Analog supply of the ADC circuitry (typical 5 V).", 65 VDD_ADC_DIG (power) "Digital supply of the ADC circuitry (typical 5 V).", 66 GND_ADC_DIG (power) "Digital ground of the ADC circuitry.", 67 VDD_DIG_OUT (power) "Power supply of ADC digital output. Connect to 5 V for normal operation. Can be brought to lower voltage when image sensor must be interfaced to low voltage periphery.", 73 VDDA (power) "Analog supply of the image core (typical 5 V).", 74 GNDA (power) "Analog ground of the image core (typical 5 V).", 75 GND_AB (power) "Anti-blooming drain control voltage. Default: connect to ground where the anti-blooming is operational but not maximal. Apply 1 V DC for improved anti-blooming.", 76 VREF (power) "Analog supply. Reset level for RESET_DS. Is used for extended optical dynamic range. See FAQ for more details.", 77 VRES (power) "Analog supply. Reset level for RESET (typical 5 V)."
part C pins: 37 NC, 38 NC, 39 NC, 40 NC, 41 NC, 42 NC, 43 NC, 44 NC, 45 NC, 46 NC, 47 NC, 56 NC

## NOIV1SE1300A-QDC
designator U?
1.3 Megapixel 150 FPS Global Shutter CMOS Image Sensor, -40 to 85 degC, 48-Pin LCC, Pb-Free, Tray; Manufacturer: On Semiconductor; PartNumber: NOIV1SE1300A-QDC; Frame Rate (fps): 150; Megapixels: 1.3; Optical Format: 1/2 inch; Shutter Type: Pipelined and Triggered Global Shutter, Rolling Shutter; DatasheetVersion: Rev. 9; PackageReference: LCC-48-NOI; PackageDescription: 48-Pin Leadless Chip Carrier, Body 14.305 x 14.305 mm, Pitch 1.016 mm; Supplier 1: Digi-Key; Supplier Part Number 1: NOIV1SE1300A-QDC-ND; Supplier 2: Mouser; Supplier Part Number 2: 863-NOIV1SE1300A-QDC; Packing: Tray; RoHS: TRUE; Mounting Technology: Surface Mount; ComponentLink1Description: Manufacturer URL; ComponentLink1URL: http://www.onsemi.com/; ComponentLink2Description: Datasheet; ComponentLink2URL: http://www.onsemi.com/pub_link/Collateral/NOIV1SN1300A-D.PDF; ComponentLink3Description: Package Specification; ComponentLink3URL: http://www.onsemi.com/pub_link/Collateral/NOIV1SN1300A-D.PDF
footprint ONSC-LCC-48-NOI_N (LCC, 48-Leads, Body 14.31x14.31mm, Pitch 1.016mm, IPC Medium Density)
footprint ONSC-LCC-48-NOI_L (LCC, 48-Leads, Body 14.31x14.31mm, Pitch 1.016mm, IPC High Density)
footprint ONSC-LCC-48-NOI_M (LCC, 48-Leads, Body 14.31x14.31mm, Pitch 1.016mm, IPC Low Density)
part A pins: 2 MOSI (in) "SPI Master Out - Slave In", 3 MISO (out) "SPI Master In - Slave Out", 4 SCK (in) "SPI Clock", 7 CLOCK_OUTN (out) "LVDS Clock Output (Negative)", 8 CLOCK_OUTP (out) "LVDS Clock Output (Positive)", 9 DOUTN0 (out) "LVDS Data Output Channel #0 (Negative)", 10 DOUTP0 (out) "LVDS Data Output Channel #0 (Positive)", 11 DOUTN1 (out) "LVDS Data Output Channel #1 (Negative)", 12 DOUTP1 (out) "LVDS Data Output Channel #1 (Positive)", 13 DOUTN2 (out) "LVDS Data Output Channel #2 (Negative)", 14 DOUTP2 (out) "LVDS Data Output Channel #2 (Positive)", 15 DOUTN3 (out) "LVDS Data Output Channel #3 (Negative)", 16 DOUTP3 (out) "LVDS Data Output Channel #3 (Positive)", 17 SYNCN (out) "LVDS Sync Channel Output (Negative)", 18 SYNCP (out) "LVDS Sync Channel Output (Positive)", 23 LVDS_CLOCK_INN (in) "LVDS Clock Input (Negative)", 24 LVDS_CLOCK_INP (in) "LVDS Clock Input (Positive)", 25 CLK_PLL (in) "Reference Clock Input for PLL", 28 IBIAS_MASTER "Master Bias Reference. Connect with 47k to gnd_33.", 41 TRIGGER0 (in) "Trigger Input #0", 42 TRIGGER1 (in) "Trigger Input #1", 43 TRIGGER2 (in) "Trigger Input #2", 44 MONITOR0 (out) "Monitor Output #0", 45 MONITOR1 (out) "Monitor Output #1", 46 RESET_N (in) "Sensor Reset (Active Low)", 47 SS_N (in) "SPI Slave Select (Active Low)"
part B pins: 1 VDD_33 (power) "3.3 V Supply", 5 GND_18 (power) "1.8 V Ground", 6 VDD_18 (power) "1.8 V Supply", 19 VDD_33 (power) "3.3 V Supply", 20 GND_33 (power) "3.3 V Ground", 21 GND_18 (power) "1.8 V Ground", 22 VDD_18 (power) "1.8 V Supply", 26 VDD_18 (power) "1.8 V Supply", 27 GND_18 (power) "1.8 V Ground", 29 VDD_33 (power) "3.3 V Supply", 30 GND_33 (power) "3.3 V Ground", 31 VDD_PIX (power) "Pixel Array Supply", 32 GND_COLPC (power) "Pixel Array Ground", 33 VDD_PIX (power) "Pixel Array Supply", 34 GND_COLPC (power) "Pixel Array Ground", 35 GND_33 (power) "3.3 V Ground", 36 VDD_33 (power) "3.3 V Supply", 37 GND_COLPC (power) "Pixel Array Ground", 38 VDD_PIX (power) "Pixel Array Supply", 39 GND_COLPC (power) "Pixel Array Ground", 40 VDD_PIX (power) "Pixel Array Supply", 48 GND_33 (power) "3.3 V Ground"

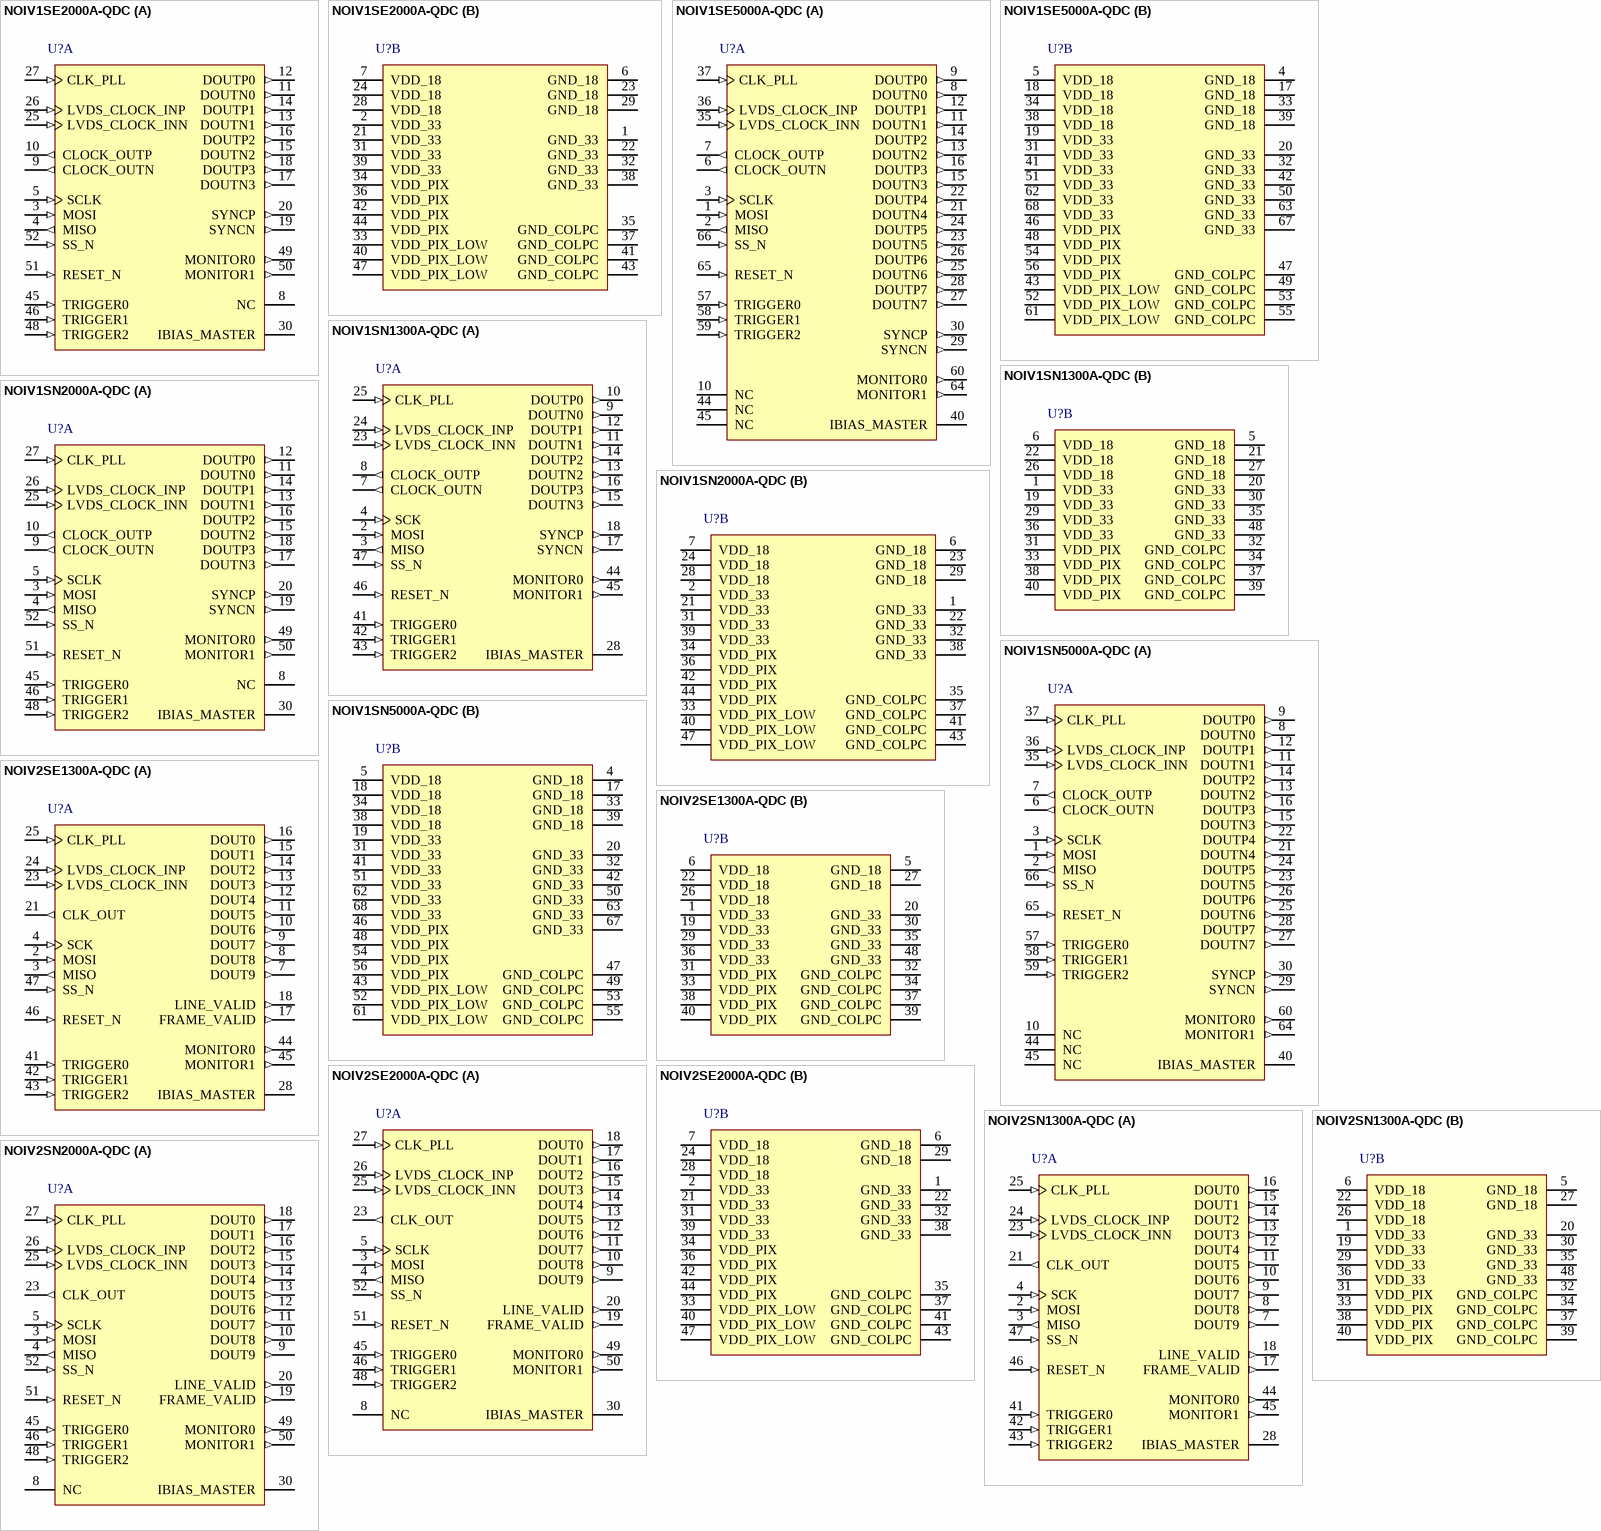
[diagram p2: symbols NOIV1SE2000A-QDC to NOIV2SN2000A-QDC]

## NOIV1SE2000A-QDC
designator U?
2.3 Megapixel 92 FPS Global Shutter CMOS Image Sensor, 0 to 70 degC, 52-Pin LCC, Pb-Free, Tray; Manufacturer: On Semiconductor; PartNumber: NOIV1SE2000A-QDC; Frame Rate (fps): 92; Megapixels: 2; Optical Format: 2/3 inch; Shutter Type: Pipelined and Triggered Global Shutter, Rolling Shutter; DatasheetVersion: Rev. 5; PackageVersion: Rev. O, 06/2011; PackageReference: LCC-52-115AP-01; PackageDescription: 52-Pin Leadless Chip Carrier, Body 19.115 x 19.115 mm, Pitch 1.27 mm; Supplier 1: Digi-Key; Supplier Part Number 1: NOIV1SE2000A-QDC-ND; Supplier 2: Newark; Supplier Part Number 2: 65T1490; Supplier 3: Mouser; Supplier Part Number 3: 863-NOIV1SE2000A-QDC; Packing: Tray; RoHS: TRUE; Mounting Technology: Surface Mount; ComponentLink1Description: Manufacturer URL; ComponentLink1URL: http://www.onsemi.com/; ComponentLink2Description: Datasheet; ComponentLink2URL: http://www.onsemi.com/pub_link/Collateral/NOIV1SN2000A-D.PDF; ComponentLink3Description: Package Specification; ComponentLink3URL: http://www.onsemi.com/pub_link/Collateral/115AP.PDF
footprint ONSC-LCC-52-115AP-01_V (LCC, 52-Leads, Body 19.115x19.115mm, Pitch 1.27mm)
part A pins: 3 MOSI (in) "SPI master out - slave in", 4 MISO (out) "SPI master in - slave out", 5 SCLK (in) "SPI clock", 8 NC "Not connected", 9 CLOCK_OUTN (out) "LVDS clock output (Negative)", 10 CLOCK_OUTP (out) "LVDS clock output (Positive)", 11 DOUTN0 (out) "LVDS data output channel #0 (Negative)", 12 DOUTP0 (out) "LVDS data output channel #0(Positive)", 13 DOUTN1 (out) "LVDS data output channel #1 (Negative)", 14 DOUTP1 (out) "LVDS data output channel #1(Positive)", 15 DOUTN2 (out) "LVDS data output channel #2 (Negative)", 16 DOUTP2 (out) "LVDS data output channel #2 (Positive)", 17 DOUTN3 (out) "LVDS data output channel #3 (Negative)", 18 DOUTP3 (out) "LVDS data output channel #3 (Positive)", 19 SYNCN (out) "LVDS sync channel output (Negative)", 20 SYNCP (out) "LVDS sync channel output (Positive)", 25 LVDS_CLOCK_INN (in) "LVDS clock input (Negative)", 26 LVDS_CLOCK_INP (in) "LVDS clock input (Positive)", 27 CLK_PLL (in) "Reference clock input for PLL", 30 IBIAS_MASTER "Master bias reference. Connect 47 k to gnd_33", 45 TRIGGER0 (in) "Trigger input #0", 46 TRIGGER1 (in) "Trigger input #1", 48 TRIGGER2 (in) "Trigger input #2", 49 MONITOR0 (out) "Monitor output #0", 50 MONITOR1 (out) "Monitor output #1", 51 RESET_N (in) "Sensor reset (active low)", 52 SS_N (in) "SPI slave select (active low)"
part B pins: 1 GND_33 (power) "3.3 V ground", 2 VDD_33 (power) "3.3 V Supply", 6 GND_18 (power) "1.8 V ground", 7 VDD_18 (power) "1.8 V supply", 21 VDD_33 (power) "3.3 V supply", 22 GND_33 (power) "3.3 V ground", 23 GND_18 (power) "1.8 V ground", 24 VDD_18 (power) "1.8 V supply", 28 VDD_18 (power) "1.8 V supply", 29 GND_18 (power) "1.8 V ground", 31 VDD_33 (power) "3.3 V supply", 32 GND_33 (power) "3.3 V ground", 33 VDD_PIX_LOW (power) "1.8 V supply", 34 VDD_PIX (power) "Pixel array supply (3.3 V)", 35 GND_COLPC (power) "Pixel array ground (0 V)", 36 VDD_PIX (power) "Pixel array supply (3.3 V)", 37 GND_COLPC (power) "Pixel array ground (0 V)", 38 GND_33 (power) "3.3 V ground", 39 VDD_33 (power) "3.3 V supply", 40 VDD_PIX_LOW (power) "1.8 V supply", 41 GND_COLPC (power) "Pixel array ground (0 V)", 42 VDD_PIX (power) "Pixel array supply (3.3 V)", 43 GND_COLPC (power) "Pixel array ground (0 V)", 44 VDD_PIX (power) "Pixel array supply (3.3 V)", 47 VDD_PIX_LOW (power) "1.8 V supply"

## NOIV1SE5000A-QDC
designator U?
5.3 Megapixel 75 FPS Global Shutter CMOS Image Sensor, 0 to 70 degC, 68-Pin LCC, Pb-Free, Tray; Manufacturer: On Semiconductor; PartNumber: NOIV1SE5000A-QDC; Frame Rate (fps): 75; Megapixels: 5; Optical Format: 1 inch; Shutter Type: Pipelined and Triggered Global Shutter, Rolling Shutter; DatasheetVersion: Rev. 6; PackageVersion: Rev. O, 06/2011; PackageReference: LCC-68-115AR-01; PackageDescription: 68-Pin Leadless Chip Carrier, Body 24.195 x 24.195 mm, Pitch 1.27 mm; Supplier 1: Digi-Key; Supplier Part Number 1: NOIV1SE5000A-QDC-ND; Supplier 2: Newark; Supplier Part Number 2: 65T1491; Supplier 3: Mouser; Supplier Part Number 3: 863-NOIV1SE5000A-QDC; Packing: Tray; RoHS: TRUE; Mounting Technology: Surface Mount; ComponentLink1Description: Manufacturer URL; ComponentLink1URL: http://www.onsemi.com/; ComponentLink2Description: Datasheet; ComponentLink2URL: http://www.onsemi.com/pub_link/Collateral/NOIV1SN5000A-D.PDF; ComponentLink3Description: Package Specification; ComponentLink3URL: http://www.onsemi.com/pub_link/Collateral/115AR.PDF
footprint ONSC-LCC-68-115AR-01_V (LCC, 68-Leads, Body 24.2x24.2mm, Pitch 1.27mm)
part A pins: 1 MOSI (in) "SPI Master Out Slave In", 2 MISO (out) "SPI Master In Slave Out", 3 SCLK (in) "SPI Input Clock", 6 CLOCK_OUTN (out) "LVDS Clock Output (Negative)", 7 CLOCK_OUTP (out) "LVDS Clock Output (Positive)", 8 DOUTN0 (out) "LVDS Data Output Channel #0 (Negative)", 9 DOUTP0 (out) "LVDS Data Output Channel #1 (Positive)", 10 NC "Not Connected", 11 DOUTN1 (out) "LVDS Data Output Channel #1 (Negative)", 12 DOUTP1 (out) "LVDS Data Output Channel #1 (Positive)", 13 DOUTN2 (out) "LVDS Data Output Channel #2 (Negative)", 14 DOUTP2 (out) "LVDS Data Output Channel #2 (Positive)", 15 DOUTN3 (out) "LVDS Data Output Channel #3 (Negative)", 16 DOUTP3 (out) "LVDS Data Output Channel #3 (Positive)", 21 DOUTN4 (out) "LVDS Data Output Channel #4 (Negative)", 22 DOUTP4 (out) "LVDS Data Output Channel #4 (Positive)", 23 DOUTN5 (out) "LVDS Data Output Channel #5 (Negative)", 24 DOUTP5 (out) "LVDS Data Output Channel #5 (Positive)", 25 DOUTN6 (out) "LVDS Data Output Channel #6 (Negative)", 26 DOUTP6 (out) "LVDS Data Output Channel #6 (Positive)", 27 DOUTN7 (out) "LVDS Data Output Channel #7 (Negative)", 28 DOUTP7 (out) "LVDS Data Output Channel #7 (Positive)", 29 SYNCN (out) "LVDS Sync Channel Output (Negative)", 30 SYNCP (out) "LVDS Sync Channel Output (Positive)", 35 LVDS_CLOCK_INN (in) "LVDS Clock Input (Positive)", 36 LVDS_CLOCK_INP (in) "LVDS Clock Input (Positive)", 37 CLK_PLL (in) "Reference Clock Input for PLL", 40 IBIAS_MASTER "Master Bias Reference", 44 NC "Not Connected", 45 NC "Not Connected", 57 TRIGGER0 (in) "Trigger Input #0", 58 TRIGGER1 (in) "Trigger Input #1", 59 TRIGGER2 (in) "Trigger Input #0", 60 MONITOR0 (out) "Monitor Output #0", 64 MONITOR1 (out) "Monitor Output #1", 65 RESET_N (in) "Sensor Reset (Active Low)", 66 SS_N (in) "SPI Slave Select."
part B pins: 4 GND_18 (power) "1.8 V Ground", 5 VDD_18 (power) "1.8 V Supply", 17 GND_18 (power) "1.8 V Ground", 18 VDD_18 (power) "1.8 V Supply", 19 VDD_33 (power) "3.3 V Supply", 20 GND_33 (power) "3.3 V Ground", 31 VDD_33 (power) "3.3 V Supply", 32 GND_33 (power) "3.3 V Ground", 33 GND_18 (power) "1.8 V Ground", 34 VDD_18 (power) "1.8 V Supply", 38 VDD_18 (power) "1.8 V Supply", 39 GND_18 (power) "1.8 V Ground", 41 VDD_33 (power) "3.3 V Supply", 42 GND_33 (power) "3.3 V Ground", 43 VDD_PIX_LOW (power) "Additional optional supply. If not used, tie this node to vdd_pix or ground.", 46 VDD_PIX (power) "Pixel Array Supply (3.3 V)", 47 GND_COLPC (power) "Pixel Array Ground (0 V)", 48 VDD_PIX (power) "Pixel Array Supply (3.3 V)", 49 GND_COLPC (power) "Pixel Array Ground (0 V)", 50 GND_33 (power) "3.3 V Ground", 51 VDD_33 (power) "3.3 V Supply", 52 VDD_PIX_LOW (power) "Additional optional supply. If not used, tie this node to vdd_pix or ground.", 53 GND_COLPC (power) "Pixel Array Ground (0 V)", 54 VDD_PIX (power) "Pixel Array Supply (3.3 V)", 55 GND_COLPC (power) "Pixel Array Ground (0 V)", 56 VDD_PIX (power) "Pixel Array Supply (3.3 V)", 61 VDD_PIX_LOW (power) "Additional optional supply. If not used, tie this node to vdd_pix or ground.", 62 VDD_33 (power) "3.3 V supply", 63 GND_33 (power) "3.3 V Ground", 67 GND_33 (power) "3.3 V Ground", 68 VDD_33 (power) "3.3 V supply"

## NOIV1SN1300A-QDC
designator U?
1.3 Megapixel 150 FPS Global Shutter CMOS Image Sensor, -40 to 85 degC, 48-Pin LCC, Pb-Free, Tray; Manufacturer: On Semiconductor; PartNumber: NOIV1SN1300A-QDC; Frame Rate (fps): 150; Megapixels: 1.3; Optical Format: 1/2 inch; Shutter Type: Pipelined and Triggered Global Shutter, Rolling Shutter; DatasheetVersion: Rev. 9; PackageReference: LCC-48-NOI; PackageDescription: 48-Pin Leadless Chip Carrier, Body 14.305 x 14.305 mm, Pitch 1.016 mm; Supplier 1: Digi-Key; Supplier Part Number 1: NOIV1SN1300A-QDCOS-ND; Supplier 2: Newark; Supplier Part Number 2: 65T1493; Supplier 3: Mouser; Supplier Part Number 3: 863-NOIV1SN1300A-QDC; Packing: Tray; RoHS: TRUE; Mounting Technology: Surface Mount; ComponentLink1Description: Manufacturer URL; ComponentLink1URL: http://www.onsemi.com/; ComponentLink2Description: Datasheet; ComponentLink2URL: http://www.onsemi.com/pub_link/Collateral/NOIV1SN1300A-D.PDF; ComponentLink3Description: Package Specification; ComponentLink3URL: http://www.onsemi.com/pub_link/Collateral/NOIV1SN1300A-D.PDF
footprint ONSC-LCC-48-NOI_N (LCC, 48-Leads, Body 14.31x14.31mm, Pitch 1.016mm, IPC Medium Density)
footprint ONSC-LCC-48-NOI_L (LCC, 48-Leads, Body 14.31x14.31mm, Pitch 1.016mm, IPC High Density)
footprint ONSC-LCC-48-NOI_M (LCC, 48-Leads, Body 14.31x14.31mm, Pitch 1.016mm, IPC Low Density)
part A pins: 2 MOSI (in) "SPI Master Out - Slave In", 3 MISO (out) "SPI Master In - Slave Out", 4 SCK (in) "SPI Clock", 7 CLOCK_OUTN (out) "LVDS Clock Output (Negative)", 8 CLOCK_OUTP (out) "LVDS Clock Output (Positive)", 9 DOUTN0 (out) "LVDS Data Output Channel #0 (Negative)", 10 DOUTP0 (out) "LVDS Data Output Channel #0 (Positive)", 11 DOUTN1 (out) "LVDS Data Output Channel #1 (Negative)", 12 DOUTP1 (out) "LVDS Data Output Channel #1 (Positive)", 13 DOUTN2 (out) "LVDS Data Output Channel #2 (Negative)", 14 DOUTP2 (out) "LVDS Data Output Channel #2 (Positive)", 15 DOUTN3 (out) "LVDS Data Output Channel #3 (Negative)", 16 DOUTP3 (out) "LVDS Data Output Channel #3 (Positive)", 17 SYNCN (out) "LVDS Sync Channel Output (Negative)", 18 SYNCP (out) "LVDS Sync Channel Output (Positive)", 23 LVDS_CLOCK_INN (in) "LVDS Clock Input (Negative)", 24 LVDS_CLOCK_INP (in) "LVDS Clock Input (Positive)", 25 CLK_PLL (in) "Reference Clock Input for PLL", 28 IBIAS_MASTER "Master Bias Reference. Connect with 47k to gnd_33.", 41 TRIGGER0 (in) "Trigger Input #0", 42 TRIGGER1 (in) "Trigger Input #1", 43 TRIGGER2 (in) "Trigger Input #2", 44 MONITOR0 (out) "Monitor Output #0", 45 MONITOR1 (out) "Monitor Output #1", 46 RESET_N (in) "Sensor Reset (Active Low)", 47 SS_N (in) "SPI Slave Select (Active Low)"
part B pins: 1 VDD_33 (power) "3.3 V Supply", 5 GND_18 (power) "1.8 V Ground", 6 VDD_18 (power) "1.8 V Supply", 19 VDD_33 (power) "3.3 V Supply", 20 GND_33 (power) "3.3 V Ground", 21 GND_18 (power) "1.8 V Ground", 22 VDD_18 (power) "1.8 V Supply", 26 VDD_18 (power) "1.8 V Supply", 27 GND_18 (power) "1.8 V Ground", 29 VDD_33 (power) "3.3 V Supply", 30 GND_33 (power) "3.3 V Ground", 31 VDD_PIX (power) "Pixel Array Supply", 32 GND_COLPC (power) "Pixel Array Ground", 33 VDD_PIX (power) "Pixel Array Supply", 34 GND_COLPC (power) "Pixel Array Ground", 35 GND_33 (power) "3.3 V Ground", 36 VDD_33 (power) "3.3 V Supply", 37 GND_COLPC (power) "Pixel Array Ground", 38 VDD_PIX (power) "Pixel Array Supply", 39 GND_COLPC (power) "Pixel Array Ground", 40 VDD_PIX (power) "Pixel Array Supply", 48 GND_33 (power) "3.3 V Ground"